# Altium footprint library Capacitors.PcbLib: 28 footprints (part 1 of 2)
Each footprint in its own frame and in the unit in brackets; x right, y up, seen from the top. Pads: shape width x height; smd on the part's side, far side on the other; paste and mask are expansions set on the pad; w line width, h text height; cw(c..) or ccw(c..) is an arc to the next point about the centre after c.
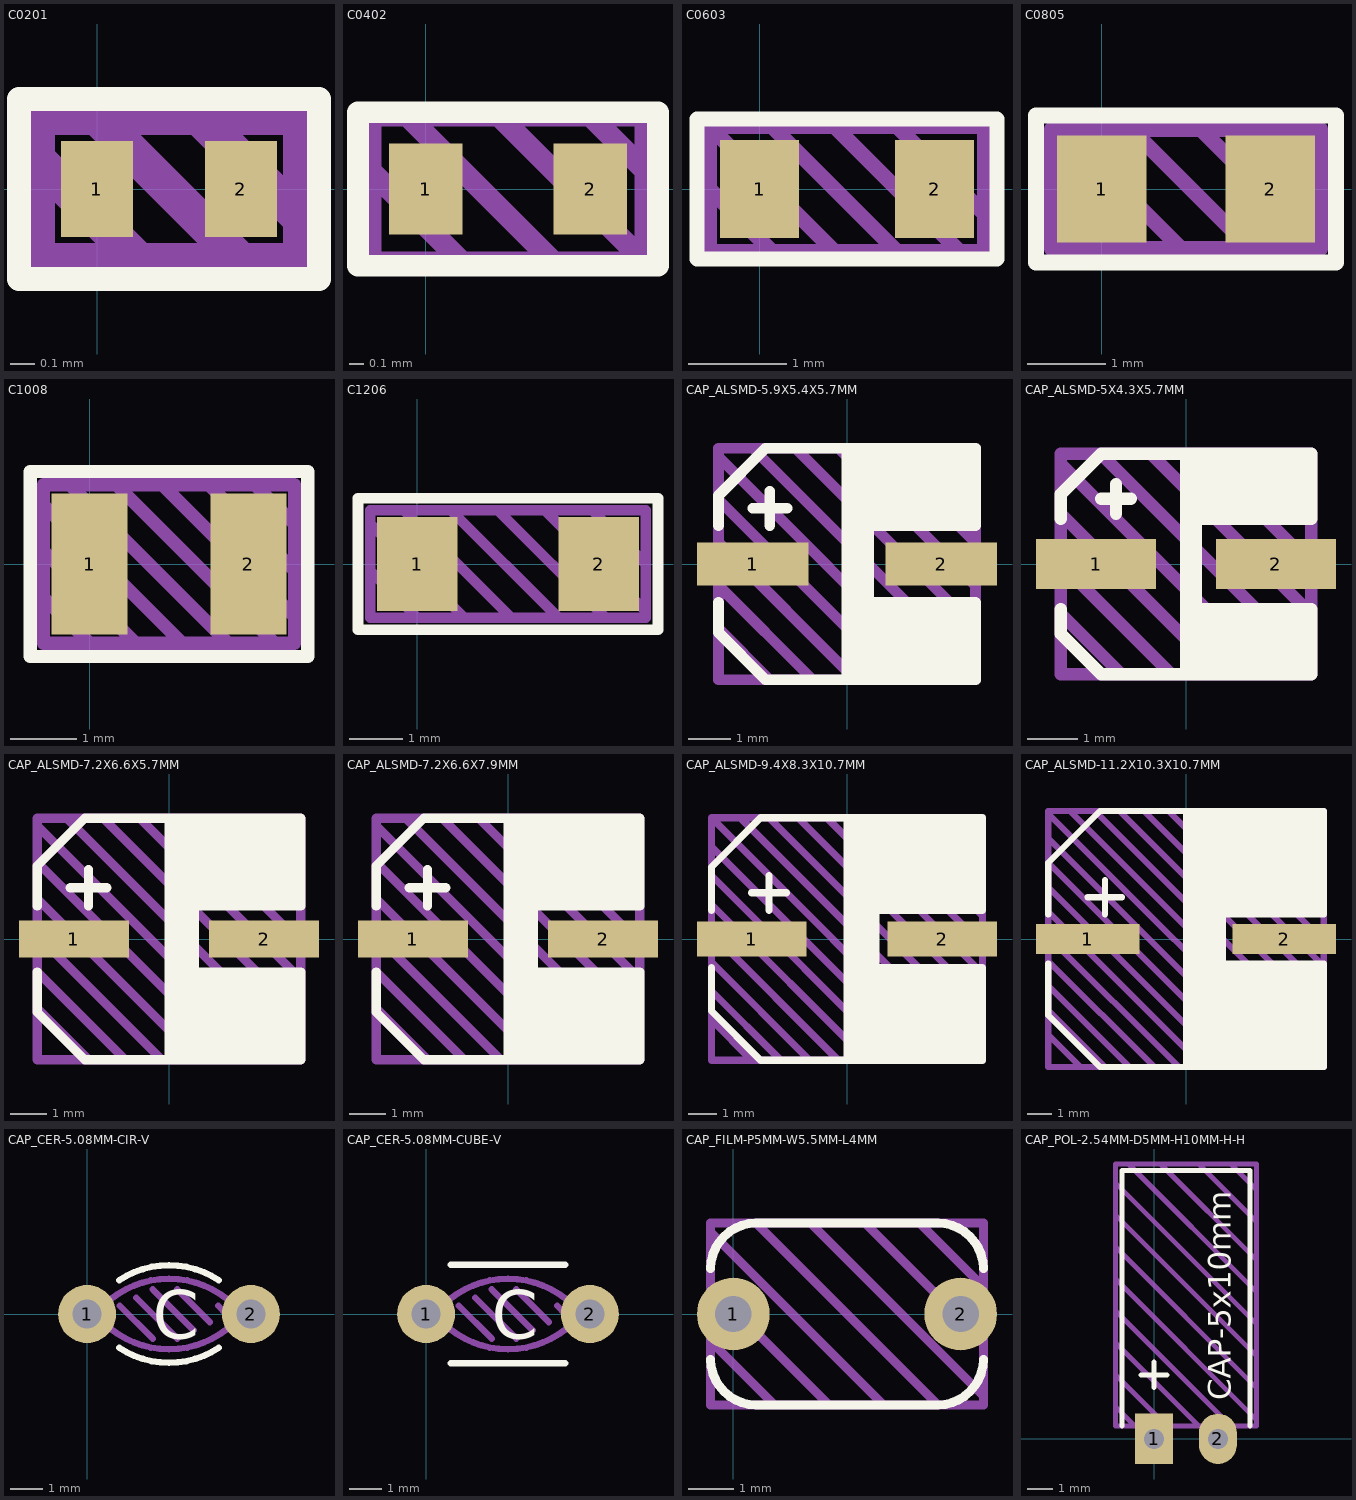
[diagram p0: the footprints below, top view; thin cyan lines are the x and y axes]

## C0201 [mm]
height 0.3
pads (2):
  rect 0.3x0.4 smd: 1(0,0) 2(0.6,0)
Top Overlay:
  lines w0.1: -0.325,-0.375 -0.325,0.375 0.925,0.375 0.925,-0.375 -0.325,-0.375
Top Draw:
  lines w0.15: -0.25,0.125 0.175,-0.3 ; 0,0.3 0.6,-0.3 ; 0.425,0.3 0.85,-0.125 ; -0.25,-0.3 -0.25,0.3 0.85,0.3 0.85,-0.3 -0.25,-0.3
Top Info:
  text "'.Comment'" at -0.762,-0.771 h0.25
3D body "C0201.step": height 0.3, standoff 0, extent 0,-0.15 0.6,0.15

## C0402 [mil]
pads (2):
  rect 20x25 smd: 1(0,0) 2(45,0)
Top Overlay:
  lines w5.91: -18.5,-21 -18.5,21 63.5,21 63.5,-21 -18.5,-21
Top Draw:
  lines w5.91: -15,5 10,-20 ; -5,20 35,-20 ; 20,20 60,-20 ; 45,20 60,5 ; 60,-20 -15,-20 -15,20 60,20 60,-20
Top Info:
  text "'.Comment'" at -36.04,-43.04 h13.78
3D body "Chip2PinSM127P600-8N111.step": height 13.78, standoff 0, extent 2.81,-9.84 42.19,9.84

## C0603 [mm]
pads (2):
  rect 0.8x1 smd: 1(0,0) 2(1.778,0)
Top Overlay:
  lines w0.15: -0.635,-0.711 -0.635,0.711 2.413,0.711 2.413,-0.711 -0.635,-0.711
Top Draw:
  lines w0.15: -0.508,0 0.127,-0.635 ; 0.127,0.635 1.397,-0.635 ; 0.762,-0.635 -0.508,0.635 ; 0.762,0.635 2.032,-0.635 ; 1.397,0.635 2.286,-0.254 ; -0.508,0.635 -0.508,-0.635 2.286,-0.635 2.286,0.635 -0.508,0.635
Top Info:
  text "'.Comment'" at -1.224,-1.492 h0.5
3D body "Chip2PinSM127P600-8N.step": height 0.8, standoff 0, extent -0.011,-0.45 1.789,0.45

## C0805 [mil]
pads (2):
  rect 45x54 smd: 1(0,0) 2(85,0)
Top Overlay:
  lines w7.87: -33,-37 -33,37 118,37 118,-37 -33,-37
Top Draw:
  lines w7.87: -25,0 5,-30 ; -20,30 40,-30 ; 15,30 75,-30 ; 35,-30 42.5,-30 ; 50,30 110,-30 ; 85,30 110,5 ; 110,-30 110,30 -25,30 -25,-30 110,-30
Top Info:
  text "'.Comment'" at -82.14,-84.15 h29.53
3D body "Chip2PinSM127P600-8N111111.step": height 23.62, standoff 0, extent 3.63,-23.62 82.37,23.63

## C1008 [mm]
pads (2):
  rect 1.15x2.14 smd: 1(0,0) 2(2.4,0)
Top Overlay:
  lines w0.2: -0.9,-1.4 -0.9,1.4 3.3,1.4 3.3,-1.4 -0.9,-1.4
Top Draw:
  lines w0.2: -0.7,-0.5 0,-1.2 ; -0.7,0.2 0.7,-1.2 ; -0.7,0.9 1.4,-1.2 ; -0.3,1.2 2.1,-1.2 ; 0.4,1.2 2.8,-1.2 ; 1.1,1.2 3.1,-0.8 ; 1.8,1.2 3.1,-0.1 ; 2.5,1.2 3.1,0.6 ; -0.7,-1.2 -0.7,1.2 3.1,1.2 3.1,-1.2 -0.7,-1.2
Top Info:
  text "'.Comment'" at -1.986,-2.537 h0.75
3D body "CAPC2520X09N.step": height 0.9, standoff 0, extent -0.05,-1 2.45,1

## C1206 [mil]
pads (2):
  rect 60x70 smd: 1(0,0) 2(135,0)
Top Overlay:
  lines w7.87: -44,-49 -44,49 179,49 179,-49 -44,-49
Top Draw:
  lines w7.87: -35,-5 0,-40 ; -35,30 35,-40 ; -10,40 70,-40 ; 25,40 105,-40 ; 60,40 140,-40 ; 95,40 170,-35 ; 130,40 170,0 ; -35,-40 -35,40 170,40 170,-40 -35,-40
Top Info:
  text "'.Comment'" at -58.52,-95.96 h29.53
3D body "Chip2PinSM127P600-8N.step": height 23.62, standoff 0, extent 5.01,-31.49 131,31.5

## CAP_ALSMD-5.9X5.4X5.7MM [mm]
pads (2):
  rect 2.6x1 smd: 1(-2.2,0) 2(2.2,0)
Top Overlay:
  region: 0,2.7 0,-2.7 3,-2.7 3,-0.9 0.5,-0.9 0.5,0.9 3,0.9 3,2.7
  lines w0.25: -3,-0.9 -3,-1.6 -1.9,-2.7 3,-2.7 3,-0.9 0.5,-0.9 0.5,0.9 3,0.9 3,2.7 -1.9,2.7 -3,1.6 -3,0.9 ; -2.2,1.3 -1.4,1.3 ; -1.8,0.9 -1.8,1.7 ; 0,-2.7 0,2.7
Top Draw:
  lines w0.25: -3,-1.5 -1.8,-2.7 ; -3,-0.5 -0.8,-2.7 ; -3,0.5 0.2,-2.7 ; -3,1.5 1.2,-2.7 ; -3,2.5 2.2,-2.7 ; -2.2,2.7 3,-2.5 ; -1.2,2.7 3,-1.5 ; -0.2,2.7 3,-0.5 ; 0.8,2.7 3,0.5 ; 1.8,2.7 3,1.5 ; -3,-2.7 3,-2.7 3,2.7 -3,2.7 -3,-2.7
Top Info:
  text "'.Comment'" at -3.186,-3.837 h0.75
3D body "CAPAE127P600-8N.step": height 5.7, standoff 0, extent -3,-2.7 3,2.7

## CAP_ALSMD-5X4.3X5.7MM [mm]
pads (2):
  rect 2.4x1 smd: 1(-1.8,0) 2(1.8,0)
Top Overlay:
  rectangle: 0,0.9 2.5,2.2
  rectangle: 0,-2.2 2.5,-0.9
  lines w0.25: -2.5,-0.9 -2.5,-1.4 -1.7,-2.2 2.5,-2.2 2.5,-0.9 0.2,-0.9 0.2,0.9 0.3,0.9 2.5,0.9 2.5,2.2 -1.7,2.2 -2.5,1.4 -2.5,0.9 ; -1.7,1.3 -1.1,1.3 ; -1.4,1 -1.4,1.6 ; 0,-2.2 0,2.2
Top Draw:
  lines w0.25: -2.5,-1 -1.3,-2.2 ; -2.5,0 -0.3,-2.2 ; -2.5,1 0.7,-2.2 ; -2.5,2 1.7,-2.2 ; -1.7,2.2 2.5,-2 ; -0.7,2.2 2.5,-1 ; 0.3,2.2 2.5,0 ; 1.3,2.2 2.5,1 ; -2.5,-2.2 2.5,-2.2 2.5,2.2 -2.5,2.2 -2.5,-2.2
Top Info:
  text "'.Comment'" at -3.186,-3.337 h0.75
3D body "CAPAE127P600-8N.step": height 5.7, standoff 0, extent -2.5,-2.2 2.5,2.2

## CAP_ALSMD-7.2X6.6X5.7MM [mm]
pads (2):
  rect 3x1 smd: 1(-2.6,0) 2(2.6,0)
Top Overlay:
  region: 0,3.3 0,-3.3 3.6,-3.3 3.6,-0.9 0.7,-0.9 0.7,0.9 3.6,0.9 3.6,3.3
  lines w0.25: -3.6,-0.9 -3.6,-2 -2.3,-3.3 3.6,-3.3 3.6,-0.9 0.7,-0.9 0.7,0.9 3.6,0.9 3.6,3.3 -2.3,3.3 -3.6,2 -3.6,0.9 ; -2.7,1.4 -1.7,1.4 ; -2.2,0.9 -2.2,1.9 ; 0,-3.3 0,3.3
Top Draw:
  lines w0.25: -3.6,-1.9 -2.2,-3.3 ; -3.6,-0.9 -1.2,-3.3 ; -3.6,0.1 -0.2,-3.3 ; -3.6,1.1 0.8,-3.3 ; -3.6,2.1 1.8,-3.3 ; -3.6,3.1 2.8,-3.3 ; -2.8,3.3 3.6,-3.1 ; -1.8,3.3 3.6,-2.1 ; -0.8,3.3 3.6,-1.1 ; 0.2,3.3 3.6,-0.1 ; 1.2,3.3 3.6,0.9 ; 2.2,3.3 3.6,1.9 ; -3.6,-3.3 -3.6,3.3 3.6,3.3 3.6,-3.3 -3.6,-3.3
Top Info:
  text "'.Comment'" at -4.249,-4.783 h1
3D body "CAPAE127P600-8N.step": height 5.7, standoff 0, extent -3.6,-3.3 3.6,3.3

## CAP_ALSMD-7.2X6.6X7.9MM [mm]
pads (2):
  rect 3x1 smd: 1(-2.6,0) 2(2.6,0)
Top Overlay:
  region: 0,3.3 0,-3.3 3.6,-3.3 3.6,-0.9 0.7,-0.9 0.7,0.9 3.6,0.9 3.6,3.3
  lines w0.25: -3.6,-0.9 -3.6,-2 -2.3,-3.3 3.6,-3.3 3.6,-0.9 0.7,-0.9 0.7,0.9 3.6,0.9 3.6,3.3 -2.3,3.3 -3.6,2 -3.6,0.9 ; -2.7,1.4 -1.7,1.4 ; -2.2,0.9 -2.2,1.9 ; 0,-3.3 0,3.3
Top Draw:
  lines w0.25: -3.6,-1.9 -2.2,-3.3 ; -3.6,-0.9 -1.2,-3.3 ; -3.6,0.1 -0.2,-3.3 ; -3.6,1.1 0.8,-3.3 ; -3.6,2.1 1.8,-3.3 ; -3.6,3.1 2.8,-3.3 ; -2.8,3.3 3.6,-3.1 ; -1.8,3.3 3.6,-2.1 ; -0.8,3.3 3.6,-1.1 ; 0.2,3.3 3.6,-0.1 ; 1.2,3.3 3.6,0.9 ; 2.2,3.3 3.6,1.9 ; -3.6,-3.3 3.6,-3.3 3.6,3.3 -3.6,3.3 -3.6,-3.3
Top Info:
  text "'.Comment'" at -4.249,-4.783 h1
3D body "CAPAE127P600-8N.step": height 7.9, standoff 0, extent -3.6,-3.3 3.6,3.3

## CAP_ALSMD-9.4X8.3X10.7MM [mm]
pads (2):
  rect 3.8x1.2 smd: 1(-3.3,0) 2(3.3,0)
Top Overlay:
  region: 0,4.2 0,-4.2 4.7,-4.2 4.7,-1 1,-1 1,1 4.7,1 4.7,4.2
  lines w0.25: -4.7,-1 -4.7,-2.5 -3,-4.2 4.7,-4.2 4.7,-1 1,-1 1,1 4.7,1 4.7,4.2 -3,4.2 -4.7,2.5 -4.7,1 ; -3.3,1.6 -2.1,1.6 ; -2.7,1 -2.7,2.2 ; 0,-4.2 0,4.2
Top Draw:
  lines w0.25: -4.7,-2.8 -3.3,-4.2 ; -4.7,-1.8 -2.3,-4.2 ; -4.7,-0.8 -1.3,-4.2 ; -4.7,0.2 -0.3,-4.2 ; -4.7,1.2 0.7,-4.2 ; -4.7,2.2 1.7,-4.2 ; -4.7,3.2 2.7,-4.2 ; -3.7,4.2 4.7,-4.2 ; -2.7,4.2 4.7,-3.2 ; -1.7,4.2 4.7,-2.2 ; -0.7,4.2 4.7,-1.2 ; 0.3,4.2 4.7,-0.2 ; 1.3,4.2 4.7,0.8 ; 2.3,4.2 4.7,1.8 ; 3.3,4.2 4.7,2.8 ; 3.7,-4.2 -4.7,4.2 ; -4.7,4.2 4.7,4.2 4.7,-4.2 ; -4.7,4.2 -4.7,-4.2 4.7,-4.2
Top Info:
  text "'.Comment'" at -5.311,-6.063 h1.25
3D body "CAPAE127P600-8N.step": height 10.7, standoff 0, extent -4.7,-4.2 4.7,4.2

## CAP_ALSMD-11.2X10.3X10.7MM [mm]
pads (2):
  rect 4.2x1.2 smd: 1(-4,0) 2(4,0)
Top Overlay:
  region: 0,5.2 0,-5.2 5.6,-5.2 5.6,-1 1.5,-1 1.5,1 5.6,1 5.6,5.2
  lines w0.25: -5.6,-1 -5.6,-3.1 -3.5,-5.2 5.6,-5.2 5.6,-1 1.5,-1 1.5,1 5.6,1 5.6,5.2 -3.5,5.2 -5.6,3.1 -5.6,1 ; -4,1.7 -2.6,1.7 ; -3.3,1 -3.3,2.4 ; 0,-5.2 0,5.2
Top Draw:
  lines w0.25: -5.6,-3.9 -4.3,-5.2 ; -5.6,-2.9 -3.3,-5.2 ; -5.6,-1.9 -2.3,-5.2 ; -5.6,-0.9 -1.3,-5.2 ; -5.6,0.1 -0.3,-5.2 ; -5.6,1.1 0.7,-5.2 ; -5.6,2.1 1.7,-5.2 ; -5.6,3.1 2.7,-5.2 ; -5.6,4.1 3.7,-5.2 ; -5.6,5.1 4.7,-5.2 ; -4.7,5.2 5.6,-5.1 ; -3.7,5.2 5.6,-4.1 ; -2.7,5.2 5.6,-3.1 ; -1.7,5.2 5.6,-2.1 ; -0.7,5.2 5.6,-1.1 ; 0.3,5.2 5.6,-0.1 ; 1.3,5.2 5.6,0.9 ; 2.3,5.2 5.6,1.9 ; 3.3,5.2 5.6,2.9 ; 4.3,5.2 5.6,3.9 ; -5.6,-5.2 -5.6,5.2 5.6,5.2 5.6,-5.2 -5.6,-5.2
Top Info:
  text "'.Comment'" at -6.373,-7.352 h1.5
3D body "CAPAE127P600-8N111.step": height 10.7, standoff 0, extent -5.6,-5.2 5.6,5.2

## CAP_CER-5.08MM-CIR-V [mm]
pads (2):
  round 1.8 hole 0.9: 1(0,0) 2(5.08,0)
Top Overlay:
  lines w0.2: 0.996,-1.046 ccw(c2.54,1.27) 4.084,-1.046 ; 0.996,1.046 cw(c2.54,-1.27) 4.084,1.046
  text "C" at 2.032,-0.762 h1.5
Top Draw:
  lines w0.2: 0.508,-0.254 ccw(c2.54,1.778) 4.572,-0.254 ; 0.508,0.254 cw(c2.54,-1.778) 4.572,0.254 ; 1.016,0.254 2.032,-0.762 ; 1.524,0.508 2.794,-0.762 ; 2.032,0.762 3.302,-0.508 ; 2.794,0.762 3.81,-0.254 ; 4.064,0.254 4.318,0
Top Info:
  text "'.Comment'" at -0.686,-2.737 h0.75
3D body: height 1.91, standoff 1.39, extent 0.639,-0.26 1.239,0.26
3D body: height 0.25, standoff -0.25, extent -0.266,-0.254 0.242,0.254
3D body: height 0.25, standoff -0.25, extent 4.825,-0.254 5.333,0.254
3D body: height 0, standoff -1.78, extent -0.254,-0.254 0.254,0.254
3D body: height 0, standoff -1.78, extent 4.825,-0.254 5.333,0.254
3D body: height 1.89, standoff -0.13, extent 3.856,-0.255 5.312,0.253
3D body: height 1.89, standoff -0.13, extent -0.232,-0.254 1.224,0.254
3D body: height 7.37, standoff 1.27, extent -0.508,-0.508 5.588,0.508
3D body: height 1.91, standoff 1.39, extent 3.841,-0.26 4.441,0.26

## CAP_CER-5.08MM-CUBE-V [mm]
pads (2):
  round 1.8 hole 0.9: 1(0,0) 2(5.08,0)
Top Overlay:
  lines w0.2: 0.762,-1.524 4.318,-1.524 ; 0.762,1.524 4.318,1.524
  text "C" at 2.032,-0.762 h1.5
Top Draw:
  lines w0.2: 0.508,-0.254 ccw(c2.54,1.778) 4.572,-0.254 ; 0.508,0.254 cw(c2.54,-1.778) 4.572,0.254 ; 1.016,0.254 2.032,-0.762 ; 1.524,0.508 2.794,-0.762 ; 2.032,0.762 3.302,-0.508 ; 2.794,0.762 3.81,-0.254 ; 4.064,0.254 4.318,0
Top Info:
  text "'.Comment'" at -0.686,-2.737 h0.75
3D body: height 2.98, standoff 2.48, extent 1.245,-0.255 1.753,0.253
3D body: height 2.98, standoff 2.48, extent 3.328,-0.254 3.836,0.254
3D body: height 2.83, standoff -0.12, extent -0.234,-0.254 1.713,0.254
3D body: height 2.83, standoff -0.12, extent 3.367,-0.255 5.314,0.253
3D body: height 0, standoff -1.78, extent 4.825,-0.254 5.333,0.254
3D body: height 0, standoff -1.78, extent -0.254,-0.254 0.254,0.254
3D body: height 0.25, standoff -0.25, extent 4.825,-0.254 5.333,0.254
3D body: height 0.25, standoff -0.25, extent -0.266,-0.254 0.242,0.254
3D body: height 4.23, standoff 2.73, extent 3.326,-0.254 3.834,0.254
3D body: height 4.23, standoff 2.73, extent 1.245,-0.255 1.753,0.253
3D body: height 6.17, standoff 3.63, extent 0.8,-0.64 4.28,0.66
3D body: height 3.8, standoff 3.3, extent 3.32,-0.26 3.84,0.26
3D body: height 3.8, standoff 3.3, extent 1.238,-0.261 1.758,0.259

## CAP_FILM-P5MM-W5.5MM-L4MM [mm]
pads (2):
  round 1.6 hole 0.8: 1(0,0) 2(5,0)
Top Overlay:
  lines w0.2: -0.5,-1 ccw(c0.5,-1) 0.5,-2 4.5,-2 ccw(c4.5,-1) 5.5,-1 ; -0.5,1 cw(c0.5,1) 0.5,2 4.5,2 cw(c4.5,1) 5.5,1
Top Draw:
  lines w0.2: -0.5,-0.6 0.9,-2 ; -0.5,0.6 2.1,-2 ; -0.5,1.8 3.3,-2 ; 0.5,2 4.5,-2 ; 1.7,2 5.5,-1.8 ; 2.9,2 5.5,-0.6 ; 4.1,2 5.5,0.6 ; -0.5,-2 -0.5,2 5.5,2 5.5,-2 -0.5,-2

## CAP_POL-2.54MM-D5MM-H10MM-H-H [mm]
pads (2):
  rect 1.5x2 hole 0.8: 1(0,0)
  oval 1.5x2 hole 0.8: 2(2.54,0)
Top Overlay:
  lines w0.2: -1.27,0.508 -1.27,10.668 3.81,10.668 3.81,0.508 ; -0.508,2.54 0.508,2.54 ; 0,2.032 0,3.048
  text "CAP-5x10mm" at 3.048,1.524 h0.9
Top Draw:
  lines w0.2: -1.524,1.27 -0.762,0.508 ; -1.524,2.54 0.508,0.508 ; -1.524,3.81 1.778,0.508 ; -1.524,5.08 3.048,0.508 ; -1.524,6.35 4.064,0.762 ; -1.524,7.62 4.064,2.032 ; -1.524,8.89 4.064,3.302 ; -1.524,10.16 4.064,4.572 ; -1.016,10.922 4.064,5.842 ; -0.508,0.508 0.762,0.508 ; 0.254,10.922 4.064,7.112 ; 1.778,10.922 4.064,8.636 4.064,8.128 ; 2.032,0.508 3.81,0.508 ; 2.54,0.508 0.762,0.508 ; 3.048,10.922 4.064,9.906 ; 3.302,0.508 4.064,0.508 4.064,10.922 -1.524,10.922 -1.524,0.508 0.762,0.508
Top Info:
  text "'.Comment'" at -1.651,-2.413 h1
3D body: height 3.33, standoff 1.67, extent 3.327,0.66 3.844,0.86
3D body: height 3.34, standoff 1.66, extent 3.691,0.66 3.844,10.66
3D body: height 2.5, standoff 0.48, extent -0.587,0.75 1.313,1.25
3D body: height 4.52, standoff 2.5, extent -0.587,0.75 1.313,1.25
3D body: height 4.52, standoff 2.5, extent 1.231,0.75 3.132,1.25
3D body: height 2.5, standoff 0.48, extent 1.231,0.75 3.132,1.25
3D body: height 2.75, standoff 2.25, extent 3.911,1.93 3.952,4.93
3D body: height 2.75, standoff 2.25, extent 2.286,0 2.794,1.27
3D body: height 2.75, standoff 2.25, extent -0.254,-0.254 0.254,0.254
3D body: height 2.75, standoff 2.25, extent 2.286,-0.254 2.794,0.254
3D body: height 2.5, standoff -1.78, extent -0.254,-0.254 0.254,0.254
3D body: height 2.5, standoff -1.78, extent 2.286,-0.254 2.794,0.254
3D body: height 5.01, standoff -0.01, extent -1.197,0.842 3.823,10.812
3D body: height 2.75, standoff 2.25, extent -0.254,0 0.254,1.27
3D body: height 2.75, standoff 2.25, extent 3.911,7.112 3.952,10.112
3D body: height 5, standoff 0, extent -1.187,10.812 3.813,10.912
3D body: height 5.01, standoff -0.01, extent -1.197,10.45 3.823,10.95
3D body: height 4.9, standoff 0.1, extent -1.087,10.812 3.713,10.842
3D body: height 5, standoff 0, extent -1.187,0.668 3.813,1.168
3D body: height 3.33, standoff 1.67, extent 3.344,10.453 3.86,10.953